# Altium schematic symbol library MCP23008-E-SS.SchLib: 1 symbol
Pins are listed as number, name and electrical type; pins without a type are passive.

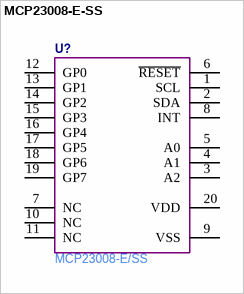
[diagram p0: symbol MCP23008-E-SS]

## MCP23008-E-SS
designator U?  Manufacturer Part Number: MCP23008-E/SS  (hidden comment: MCP23008-E-SS)
pins: 1 SCL, 2 SDA, 3 A2, 4 A1, 5 A0, 6 ~{RESET}, 7 NC, 8 INT, 9 VSS, 10 NC, 11 NC, 12 GP0, 13 GP1, 14 GP2, 15 GP3, 16 GP4, 17 GP5, 18 GP6, 19 GP7, 20 VDD